# EAGLE library part MAX11647 (library lichtenstein_onion)
Low-Power, 1-/2-Channel, I²C, 10-Bit ADC Datasheet <https://datasheets.maximintegrated.com/en/ds/MAX11646-MAX11647.pdf>
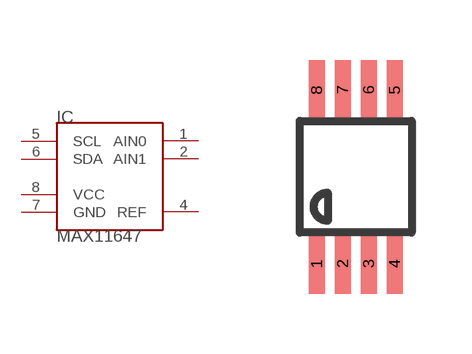
[diagram p26: symbol with the pads of UMAX8; footprint UMAX8]

Designator prefix IC

## MAX11647UMAX-8 (MOUSER: 700-MAX11647EUA)  [UMAX8]
1  AIN0  in
2  AIN1  in
4  REF  in
5  SCL
6  SDA
7  GND  pwr
8  VCC  pwr

## Footprint UMAX8 (pad centres in mm)
micro MAX Package
smd 0.4 x 1.5: 1 -0.975,-2.175; 2 -0.325,-2.175; 3 0.325,-2.175; 4 0.975,-2.175; 5 0.975,2.175; 6 0.325,2.175; 7 -0.325,2.175; 8 -0.975,2.175